# Altium footprint library Adams Altium Library.PcbLib: 250 footprints (part 3 of 16)
Each footprint in its own frame and in the unit in brackets; x right, y up, seen from the top. Pads: shape width x height; smd on the part's side, far side on the other; paste and mask are expansions set on the pad; w line width, h text height; cw(c..) or ccw(c..) is an arc to the next point about the centre after c.
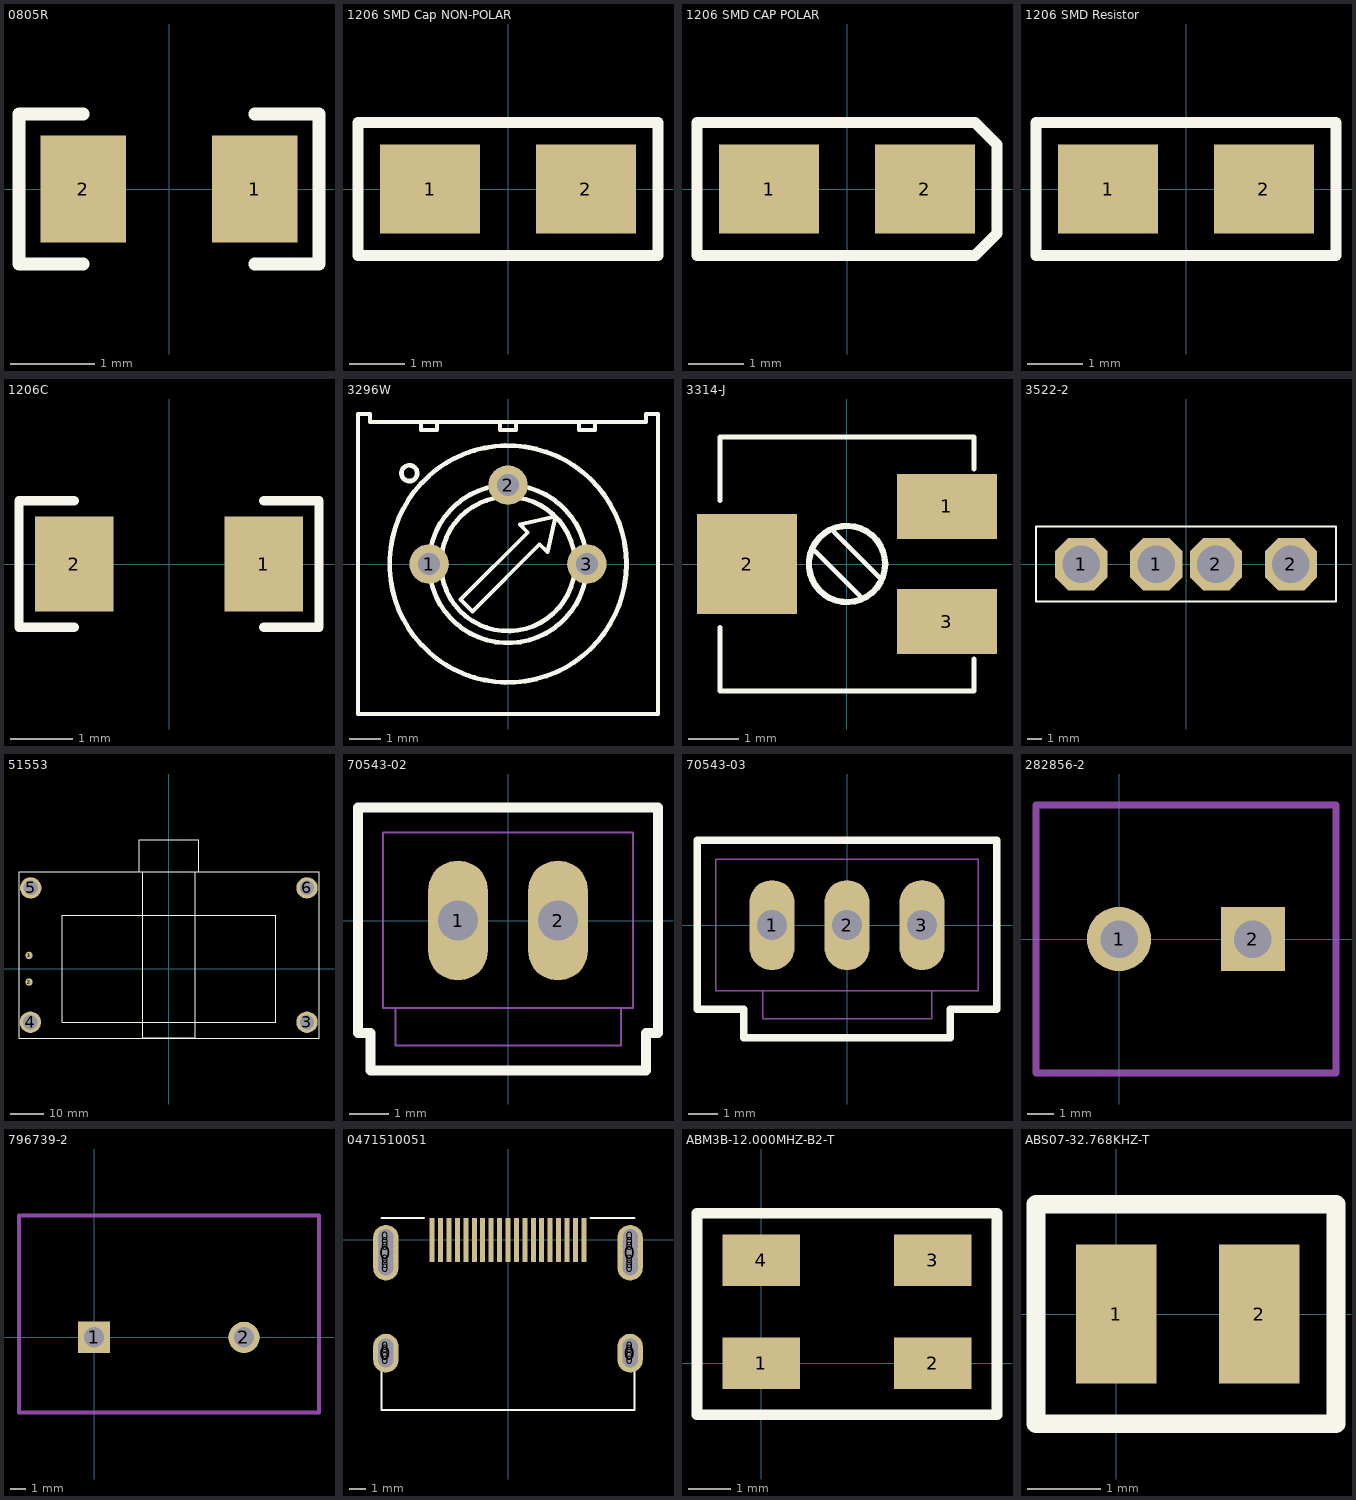
[diagram p2: the footprints below, top view; thin cyan lines are the x and y axes]

## 0805R [mil]
pads (2):
  rect 40x50 smd: 1(40,0) 2(-40,0)
Top Overlay:
  lines w6: -40,-35 -70,-35 -70,35 -40,35 ; 40,-35 70,-35 70,35 40,35

## 1206 SMD Cap NON-POLAR [mm]
pads (2):
  rect 1.8x1.6 smd: 1(-1.4,0) 2(1.4,0)
Top Overlay:
  lines w0.2: -2.7,-1.2 2.7,-1.2 2.7,1.2 -2.7,1.2 -2.7,0 -2.7,-1.2

## 1206 SMD CAP POLAR [mm]
pads (2):
  rect 1.8x1.6 smd: 1(-1.4,0) 2(1.4,0)
Top Overlay:
  lines w0.2: -2.7,-1.2 2.3,-1.2 2.7,-0.8 2.7,0.8 2.3,1.2 -2.7,1.2 -2.7,0 -2.7,-1.2

## 1206 SMD Resistor [mm]
pads (2):
  rect 1.8x1.6 smd: 1(-1.4,0) 2(1.4,0)
Top Overlay:
  lines w0.2: -2.7,-1.2 2.7,-1.2 2.7,1.2 -2.7,1.2 -2.7,0 -2.7,-1.2

## 1206C [mil]
pads (2):
  rect 50x60 smd: 1(60,0) 2(-60,0)
Top Overlay:
  lines w6: -60,-40 -95,-40 -95,40 -60,40 ; 60,-40 95,-40 95,40 60,40

## 3296W [mil]
pads (3):
  round 50 hole 28: 1(-100,0) 2(0,100) 3(100,0)
Top Overlay:
  circle w6: c0,0 r85
  circle w6: c0,0 r100
  circle w6: c-125,115 r10
  circle w6: c0,0 r150
  lines w5: -110,180 -110,170 -90,170 -90,180 ; -10,180 -10,170 10,170 10,180 ; 90,180 90,170 110,170 110,180 ; -190,-190 190,-190 190,190 175,190 175,180 -175,180 -175,190 -190,190 -190,-190 ; -60,-45 -45,-60 40,25 50,15 60,60 15,50 25,40 -60,-45

## 3314-J [mm]
pads (3):
  rect 2x1.3 smd: 1(2,1.15) 3(2,-1.15)
  rect 2x2 smd: 2(-2,0)
Top Overlay:
  circle w0.127: c0,0 r0.762
  lines w0.1: -2.54,-1.27 -2.54,-2.54 2.54,-2.54 2.54,-1.905 ; -2.54,1.27 -2.54,2.54 2.54,2.54 2.54,1.905 ; -0.635,0.254 0.254,-0.635 ; -0.254,0.635 0.635,-0.254

## 3522-2 [mil] "3522-2"
pads (4):
  oct 140x140 hole 100: 1(-280,0) 1(-80,0) 2(80,0) 2(280,0)
Top Overlay:
  lines w5: -400,-100 400,-100 400,100 -400,100 -400,-100
3D body: height 299.21, standoff 0, extent -353,-73 353,73
3D body: height 50, standoff 0, extent -402.5,-102.5 402.5,102.5

## 51553 [mm]
pads (6):
  round 2.2 hole 1 paste-99: 1(-41.85,4.01) 2(-41.85,-3.99)
  round 6.4 hole 4.3 paste-99: 3(41.35,-16) 4(-41.45,-16) 5(-41.35,24.2) 6(41.35,24.2)
Top Overlay:
  lines w0.254: -8.85,29 -8.85,38.6 8.95,38.6 8.95,29 ; -7.75,29 -7.75,-20.7 7.85,-20.7 7.85,29 ; -44.85,-20.8 44.95,-20.8 44.95,29 -44.85,29 -44.85,-20.8 ; -31.95,-16 32.05,-16 32.05,16 -31.95,16 -31.95,-16
3D body: height 11, standoff 6, extent 7.851,-15.999 32.049,15.999
3D body: height 6, standoff 0, extent 38.275,-19.094 44.45,-12.906
3D body: height 6, standoff 0, extent 38.275,21.106 44.45,27.294
3D body: height 6, standoff 0, extent -44.425,21.106 -38.25,27.294
3D body: height 6, standoff 0, extent -44.525,-19.094 -38.35,-12.906
3D body: height 12, standoff 0, extent -8.849,29.001 8.949,38.599
3D body: height 12, standoff 6, extent -7.749,-20.699 7.849,-16.001
3D body: height 12, standoff 6, extent -7.749,16.001 7.849,28.999
3D body: height 12, standoff 6, extent -44.849,-20.799 44.949,28.999
3D body: height 11, standoff 6, extent -31.949,-15.999 -7.751,15.999
3D body: height 11, standoff 6, extent -7.749,-15.999 7.849,15.999

## 70543-02 [mil]
pads (2):
  oval 60x120 hole 40: 1(-50,0) 2(50,0)
Top Overlay:
  lines w10: -150,-112.5 -150,113 150,113 150,-112.5 138,-112.5 138,-150 -137.5,-150 -137.5,-112.5 -150,-112.5
Mechanical 16:
  rectangle: 41,-9.37 60,10
  rectangle: -59.37,-9.37 -40.63,10
  lines w2: -112.5,-87.5 -125,-87.5 -125,88 125,88 125,-87.5 113,-87.5 ; -112.5,-87.5 113,-87.5 ; -112.5,-87.5 -112.5,-125 113,-125 113,-87.5
  text "1" at -112.5,-62.5 h62
3D body: height 118.11, standoff 0, extent -149.98,-112.48 149.98,112.98
3D body: height 450, standoff 118.11, extent -149.98,-149.98 149.98,112.98

## 70543-03 [mil]
pads (3):
  oval 60x120 hole 40: 1(-100,0) 2(0,0) 3(100,0)
Top Overlay:
  lines w10: -200,-112.5 -200,113 200,113 200,-112.5 138,-112.5 138,-150 -137.5,-150 -137.5,-112.5 -200,-112.5
Mechanical 16:
  rectangle: -9.37,-9.37 10,10
  rectangle: -109.37,-9.37 -90.63,10
  rectangle: 91,-9.37 110,10
  lines w2: -112.5,-87.5 -175,-87.5 -175,88 175,88 175,-87.5 113,-87.5 ; -112.5,-87.5 113,-87.5 ; -112.5,-87.5 -112.5,-125 113,-125 113,-87.5
  text "1" at -162.5,-62.5 h62
3D body: height 450, standoff 0, extent -199.98,-149.98 199.98,112.98

## 282856-2 [mm] "Screw Terminal  two pole"
height 19
pads (2):
  round 2.4 hole 1.4: 1(0,0)
  rect 2.4x2.4 hole 1.4: 2(5,0)
Mechanical 13:
  lines w0.254: -3.1,-5 8.1,-5 8.1,5 -3.1,5 -3.1,-5

## 796739-2 [mm] "796739-2 Screw Terminal"
height 9.53
pads (2):
  rect 2x2 hole 1.3: 1(0,0)
  round 2 hole 1.3: 2(9.52,0)
Mechanical 1:
  lines w0.254: -4.76,-4.76 14.28,-4.76 14.28,7.74 -4.76,7.74 -4.76,-4.76

## 0471510051 [mm]
pads (43):
  round 0.9 hole 0.9: 0(-7.25,-7.137) 0(-7.25,-6.909) 0(-7.25,-6.502) 0(-7.25,-6.299) 0(-7.25,-1.674) 0(-7.25,-1.446) 0(-7.25,-1.141) 0(-7.25,-0.379) 0(-7.25,-0.1) 0(-7.25,0.205) 0(7.25,-7.137) 0(7.25,-6.909) 0(7.25,-6.502) 0(7.25,-6.299) 0(7.25,-1.676) 0(7.25,-1.448) 0(7.25,-1.143) 0(7.25,-0.381) 0(7.25,-0.102) 0(7.264,0.203)
  oval 1.5x2.3 hole 0.9: 0(-7.25,-6.72) 0(7.25,-6.72)
  oval 1.5x3.3 hole 0.9: 0(-7.25,-0.76) 0(7.25,-0.762)
  rect 0.3x2.6 smd: 1(4.5,0) 2(4,0) 3(3.5,0) 4(3,0) 5(2.5,0) 6(2,0) 7(1.5,0) 8(1,0) 9(0.5,0) 10(0,0) 11(-0.5,0) 12(-1,0) 13(-1.5,0) 14(-2,0) 15(-2.5,0) 16(-3,0) 17(-3.5,0) 18(-4,0) 19(-4.5,0)
Top Overlay:
  lines w0.127: -7.5,-7.3 -7.5,-10.1 7.5,-10.1 7.5,-7.3 ; -7.5,1.3 -5,1.3 ; 4.9,1.3 7.5,1.3

## ABM3B-12.000MHZ-B2-T [mm] "ABM3B-12.000MHZ-B2-T 12MHZ Crystam Oscillator"
pads (4):
  rect 1.8x1.2 smd: 1(0,0) 2(4,0) 3(4,2.4) 4(0,2.4)
Top Overlay:
  lines w0.254: -1.5,-1.2 -1.5,3.5 5.5,3.5 5.5,-1.2 -1.5,-1.2

## ABS07-32.768KHZ-T [mm] "ABS07-32.768KHZ-T Crystal Oscillator"
pads (2):
  rect 1.1x1.9 smd: 1(0,0) 2(1.95,0)
Top Overlay:
  lines w0.254: -1.1,-1.5 -1.1,1.5 3,1.5 3,-1.5 -1.1,-1.5